# Altium integrated library Linear Technology Power Management Hot Swap Controllers.IntLib: 992 symbols (part 47 of 93)
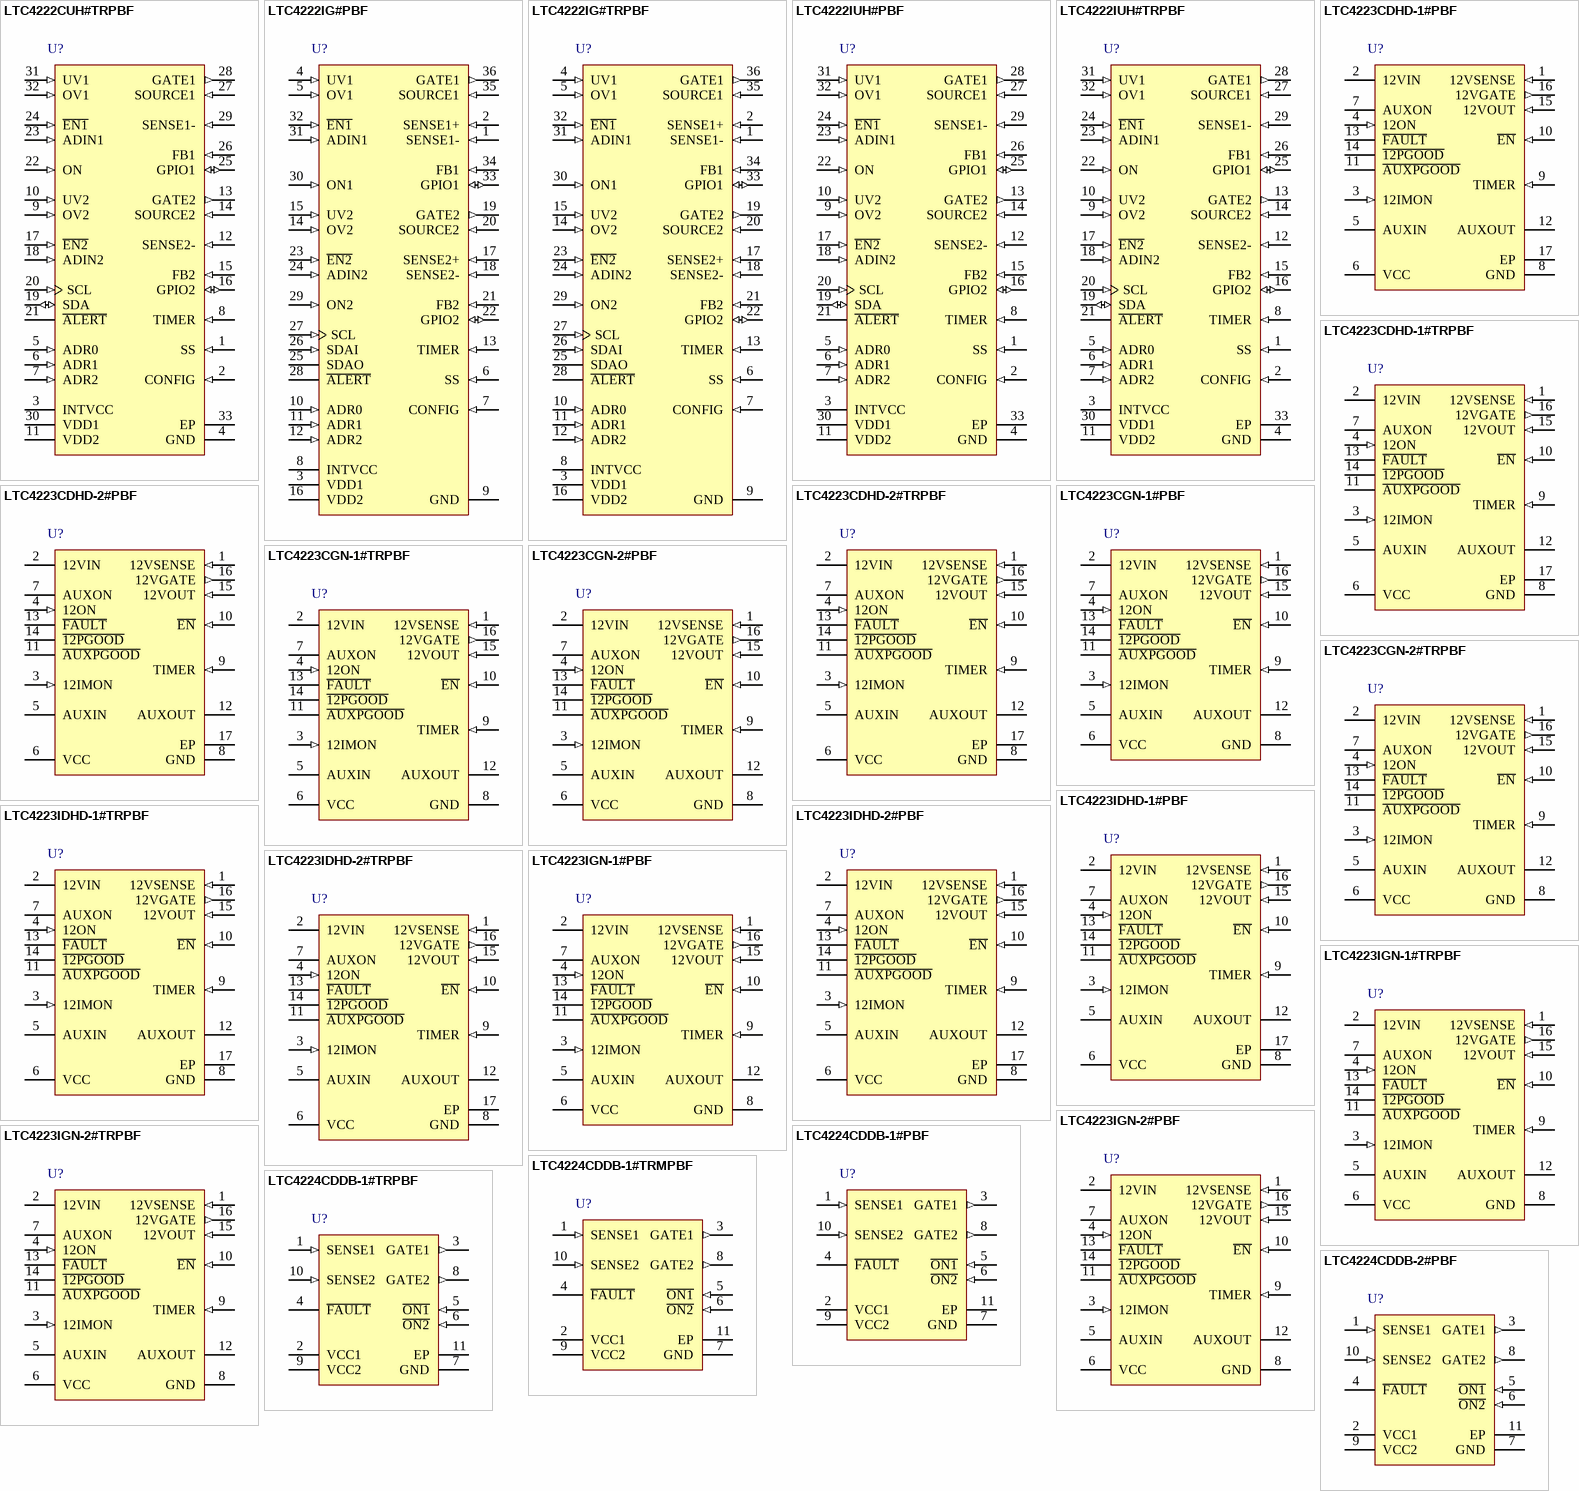
[diagram p83: symbols LTC4222CUH#TRPBF to LTC4224CDDB-2#PBF]

## LTC4224CDDB-1#PBF
designator U?
Compact Dual Low Voltage Hot Swap Controller, 1 to 6 V Vin, 10-pin SON (DDB-10), 0 to 70 degC, Pb-Free; Manufacturer: Linear Technology; PartNumber: LTC4224CDDB-1#PBF; Active Limiting: yes; Circuit Breaker Accuracy(%): 10; Circuit Breaker Threshold: 50 mV; Circuit Breakers(#): 2; Extended Temp: C, I; Fast Comparator: no; Vin Range: 1V to 6 V; DatasheetVersion: Rev. A; PackageVersion: Rev. Ø, 06/2010; PackageReference: DDB10; PackageDescription: 10-Pin Plastic DFN, Body 3 x 2 mm, Pitch 0.5 mm; Fault: no; Foldback: no; Power Good: yes; Reset: yes; RoHS: TRUE; Mounting Technology: Surface Mount; Code_JEDEC: MO-229; ComponentLink1Description: Manufacturer URL; ComponentLink1URL: http://www.linear.com/; ComponentLink2Description: Datasheet; ComponentLink2URL: http://cds.linear.com/docs/en/datasheet/422412fa.pdf; ComponentLink3Description: Package Specification; ComponentLink3URL: http://cds.linear.com/docs/en/packaging/DFN_10_05-08-1722.pdf
footprint LT-DDB-10_V (SON, 10-Leads, Body 3x2mm, Pitch 0.5mm, Thermal Pad 2.39x0.64mm)
pins: 1 SENSE1 (in) "Current Sense Input. Connect this pin to an external sense resistor. The current limit circuit controls GATEn to limit the voltage between VCCn and SENSEn to 25mV. An Electronic Circuit Breaker (ECB) is active during current (See Datasheet)", 2 VCC1 (power) "Supply Voltage and Current Sense Input. An undervoltage lockout circuit disables the part until VCC, the higher of VCC1 and VCC2, exceeds 2.4V. The lower supply is disabled until it exceeds 0.8V.", 3 GATE1 (out) "Gate Drive for External N-channel MOSFET. A charge pump sources 10uA from GATE to turn on the external MOSFET. An internal clamp limits the gate voltage to 5.5V above the higher of VCC1 and VCC2. During turn-off, a 1.5mA (See Datasheet)", 4 ~{FAULT} (oc) "Fault Status Output. Open-drain output that is normally pulled high to VCC1 or VCC2 by an external resistor. It is pulled low when the ECB trips due to an overcurrent condition at either supply. This pin may be left open if (See Datasheet)", 5 ~{ON1} (in) "On Control Input. A falling edge turns on the external N-channel MOSFET and a rising edge turns it off. A low to high transition on this pin resets an ECB fault for the corresponding channel. Internally pulled up to VCC by a (See Datasheet)", 6 ~{ON2} (in) "On Control Input. A falling edge turns on the external N-channel MOSFET and a rising edge turns it off. A low to high transition on this pin resets an ECB fault for the corresponding channel. Internally pulled up to VCC by a (See Datasheet)", 7 GND (power) "Device Ground.", 8 GATE2 (out) "Gate Drive for External N-channel MOSFET. A charge pump sources 10uA from GATE to turn on the external MOSFET. An internal clamp limits the gate voltage to 5.5V above the higher of VCC1 and VCC2. During turn-off, a 1.5mA (See Datasheet)", 9 VCC2 (power) "Supply Voltage and Current Sense Input. An undervoltage lockout circuit disables the part until VCC, the higher of VCC1 and VCC2, exceeds 2.4V. The lower supply is disabled until it exceeds 0.8V.", 10 SENSE2 (in) "Current Sense Input. Connect this pin to an external sense resistor. The current limit circuit controls GATEn to limit the voltage between VCCn and SENSEn to 25mV. An Electronic Circuit Breaker (ECB) is active during current (See Datasheet)", 11 EP "Exposed Pad may be left open or connected to device ground."

## LTC4224CDDB-1#TRMPBF
designator U?
Compact Dual Low Voltage Hot Swap Controller, 1 to 6 V Vin, 10-pin SON (DDB-10), 0 to 70 degC, Pb-Free, Mini Tape and Reel; Manufacturer: Linear Technology; PartNumber: LTC4224CDDB-1#TRMPBF; Active Limiting: yes; Circuit Breaker Accuracy(%): 10; Circuit Breaker Threshold: 50 mV; Circuit Breakers(#): 2; Extended Temp: C, I; Fast Comparator: no; Vin Range: 1V to 6 V; DatasheetVersion: Rev. A; PackageVersion: Rev. Ø, 06/2010; PackageReference: DDB10; PackageDescription: 10-Pin Plastic DFN, Body 3 x 2 mm, Pitch 0.5 mm; Supplier 1: Digi-Key; Supplier Part Number 1: LTC4224CDDB-1#TRMPBFTR-ND; Supplier 2: Digi-Key; Supplier Part Number 2: LTC4224CDDB-1#TRMPBFCT-ND; Supplier 3: Digi-Key; Supplier Part Number 3: LTC4224CDDB-1#TRMPBFDKR-ND; Fault: no; Foldback: no; Packing: Mini Tape and Reel; Power Good: yes; Reset: yes; RoHS: TRUE; Mounting Technology: Surface Mount; Code_JEDEC: MO-229; ComponentLink1Description: Manufacturer URL; ComponentLink1URL: http://www.linear.com/; ComponentLink2Description: Datasheet; ComponentLink2URL: http://cds.linear.com/docs/en/datasheet/422412fa.pdf; ComponentLink3Description: Package Specification; ComponentLink3URL: http://cds.linear.com/docs/en/packaging/DFN_10_05-08-1722.pdf
footprint LT-DDB-10_V (SON, 10-Leads, Body 3x2mm, Pitch 0.5mm, Thermal Pad 2.39x0.64mm)
pins: 1 SENSE1 (in) "Current Sense Input. Connect this pin to an external sense resistor. The current limit circuit controls GATEn to limit the voltage between VCCn and SENSEn to 25mV. An Electronic Circuit Breaker (ECB) is active during current (See Datasheet)", 2 VCC1 (power) "Supply Voltage and Current Sense Input. An undervoltage lockout circuit disables the part until VCC, the higher of VCC1 and VCC2, exceeds 2.4V. The lower supply is disabled until it exceeds 0.8V.", 3 GATE1 (out) "Gate Drive for External N-channel MOSFET. A charge pump sources 10uA from GATE to turn on the external MOSFET. An internal clamp limits the gate voltage to 5.5V above the higher of VCC1 and VCC2. During turn-off, a 1.5mA (See Datasheet)", 4 ~{FAULT} (oc) "Fault Status Output. Open-drain output that is normally pulled high to VCC1 or VCC2 by an external resistor. It is pulled low when the ECB trips due to an overcurrent condition at either supply. This pin may be left open if (See Datasheet)", 5 ~{ON1} (in) "On Control Input. A falling edge turns on the external N-channel MOSFET and a rising edge turns it off. A low to high transition on this pin resets an ECB fault for the corresponding channel. Internally pulled up to VCC by a (See Datasheet)", 6 ~{ON2} (in) "On Control Input. A falling edge turns on the external N-channel MOSFET and a rising edge turns it off. A low to high transition on this pin resets an ECB fault for the corresponding channel. Internally pulled up to VCC by a (See Datasheet)", 7 GND (power) "Device Ground.", 8 GATE2 (out) "Gate Drive for External N-channel MOSFET. A charge pump sources 10uA from GATE to turn on the external MOSFET. An internal clamp limits the gate voltage to 5.5V above the higher of VCC1 and VCC2. During turn-off, a 1.5mA (See Datasheet)", 9 VCC2 (power) "Supply Voltage and Current Sense Input. An undervoltage lockout circuit disables the part until VCC, the higher of VCC1 and VCC2, exceeds 2.4V. The lower supply is disabled until it exceeds 0.8V.", 10 SENSE2 (in) "Current Sense Input. Connect this pin to an external sense resistor. The current limit circuit controls GATEn to limit the voltage between VCCn and SENSEn to 25mV. An Electronic Circuit Breaker (ECB) is active during current (See Datasheet)", 11 EP "Exposed Pad may be left open or connected to device ground."

## LTC4224CDDB-1#TRPBF
designator U?
Compact Dual Low Voltage Hot Swap Controller, 1 to 6 V Vin, 10-pin SON (DDB-10), 0 to 70 degC, Pb-Free, Tape and Reel; Manufacturer: Linear Technology; PartNumber: LTC4224CDDB-1#TRPBF; Active Limiting: yes; Circuit Breaker Accuracy(%): 10; Circuit Breaker Threshold: 50 mV; Circuit Breakers(#): 2; Extended Temp: C, I; Fast Comparator: no; Vin Range: 1V to 6 V; DatasheetVersion: Rev. A; PackageVersion: Rev. Ø, 06/2010; PackageReference: DDB10; PackageDescription: 10-Pin Plastic DFN, Body 3 x 2 mm, Pitch 0.5 mm; Supplier 1: Digi-Key; Supplier Part Number 1: LTC4224CDDB-1#TRPBF-ND; Fault: no; Foldback: no; Packing: Tape and Reel; Power Good: yes; Reset: yes; RoHS: TRUE; Mounting Technology: Surface Mount; Code_JEDEC: MO-229; ComponentLink1Description: Manufacturer URL; ComponentLink1URL: http://www.linear.com/; ComponentLink2Description: Datasheet; ComponentLink2URL: http://cds.linear.com/docs/en/datasheet/422412fa.pdf; ComponentLink3Description: Package Specification; ComponentLink3URL: http://cds.linear.com/docs/en/packaging/DFN_10_05-08-1722.pdf
footprint LT-DDB-10_V (SON, 10-Leads, Body 3x2mm, Pitch 0.5mm, Thermal Pad 2.39x0.64mm)
pins: 1 SENSE1 (in) "Current Sense Input. Connect this pin to an external sense resistor. The current limit circuit controls GATEn to limit the voltage between VCCn and SENSEn to 25mV. An Electronic Circuit Breaker (ECB) is active during current (See Datasheet)", 2 VCC1 (power) "Supply Voltage and Current Sense Input. An undervoltage lockout circuit disables the part until VCC, the higher of VCC1 and VCC2, exceeds 2.4V. The lower supply is disabled until it exceeds 0.8V.", 3 GATE1 (out) "Gate Drive for External N-channel MOSFET. A charge pump sources 10uA from GATE to turn on the external MOSFET. An internal clamp limits the gate voltage to 5.5V above the higher of VCC1 and VCC2. During turn-off, a 1.5mA (See Datasheet)", 4 ~{FAULT} (oc) "Fault Status Output. Open-drain output that is normally pulled high to VCC1 or VCC2 by an external resistor. It is pulled low when the ECB trips due to an overcurrent condition at either supply. This pin may be left open if (See Datasheet)", 5 ~{ON1} (in) "On Control Input. A falling edge turns on the external N-channel MOSFET and a rising edge turns it off. A low to high transition on this pin resets an ECB fault for the corresponding channel. Internally pulled up to VCC by a (See Datasheet)", 6 ~{ON2} (in) "On Control Input. A falling edge turns on the external N-channel MOSFET and a rising edge turns it off. A low to high transition on this pin resets an ECB fault for the corresponding channel. Internally pulled up to VCC by a (See Datasheet)", 7 GND (power) "Device Ground.", 8 GATE2 (out) "Gate Drive for External N-channel MOSFET. A charge pump sources 10uA from GATE to turn on the external MOSFET. An internal clamp limits the gate voltage to 5.5V above the higher of VCC1 and VCC2. During turn-off, a 1.5mA (See Datasheet)", 9 VCC2 (power) "Supply Voltage and Current Sense Input. An undervoltage lockout circuit disables the part until VCC, the higher of VCC1 and VCC2, exceeds 2.4V. The lower supply is disabled until it exceeds 0.8V.", 10 SENSE2 (in) "Current Sense Input. Connect this pin to an external sense resistor. The current limit circuit controls GATEn to limit the voltage between VCCn and SENSEn to 25mV. An Electronic Circuit Breaker (ECB) is active during current (See Datasheet)", 11 EP "Exposed Pad may be left open or connected to device ground."

## LTC4224CDDB-2#PBF
designator U?
Compact Dual Low Voltage Hot Swap Controller, 1 to 6 V Vin, 10-pin SON (DDB-10), 0 to 70 degC, Pb-Free; Manufacturer: Linear Technology; PartNumber: LTC4224CDDB-2#PBF; Active Limiting: yes; Circuit Breaker Accuracy(%): 10; Circuit Breaker Threshold: 50 mV; Circuit Breakers(#): 2; Extended Temp: C, I; Fast Comparator: no; Vin Range: 1V to 6 V; DatasheetVersion: Rev. A; PackageVersion: Rev. Ø, 06/2010; PackageReference: DDB10; PackageDescription: 10-Pin Plastic DFN, Body 3 x 2 mm, Pitch 0.5 mm; Fault: no; Foldback: no; Power Good: yes; Reset: yes; RoHS: TRUE; Mounting Technology: Surface Mount; Code_JEDEC: MO-229; ComponentLink1Description: Manufacturer URL; ComponentLink1URL: http://www.linear.com/; ComponentLink2Description: Datasheet; ComponentLink2URL: http://cds.linear.com/docs/en/datasheet/422412fa.pdf; ComponentLink3Description: Package Specification; ComponentLink3URL: http://cds.linear.com/docs/en/packaging/DFN_10_05-08-1722.pdf
footprint LT-DDB-10_V (SON, 10-Leads, Body 3x2mm, Pitch 0.5mm, Thermal Pad 2.39x0.64mm)
pins: 1 SENSE1 (in) "Current Sense Input. Connect this pin to an external sense resistor. The current limit circuit controls GATEn to limit the voltage between VCCn and SENSEn to 25mV. An Electronic Circuit Breaker (ECB) is active during current (See Datasheet)", 2 VCC1 (power) "Supply Voltage and Current Sense Input. An undervoltage lockout circuit disables the part until VCC, the higher of VCC1 and VCC2, exceeds 2.4V. The lower supply is disabled until it exceeds 0.8V.", 3 GATE1 (out) "Gate Drive for External N-channel MOSFET. A charge pump sources 10uA from GATE to turn on the external MOSFET. An internal clamp limits the gate voltage to 5.5V above the higher of VCC1 and VCC2. During turn-off, a 1.5mA (See Datasheet)", 4 ~{FAULT} (oc) "Fault Status Output. Open-drain output that is normally pulled high to VCC1 or VCC2 by an external resistor. It is pulled low when the ECB trips due to an overcurrent condition at either supply. This pin may be left open if (See Datasheet)", 5 ~{ON1} (in) "On Control Input. A falling edge turns on the external N-channel MOSFET and a rising edge turns it off. A low to high transition on this pin resets an ECB fault for the corresponding channel. Internally pulled up to VCC by a (See Datasheet)", 6 ~{ON2} (in) "On Control Input. A falling edge turns on the external N-channel MOSFET and a rising edge turns it off. A low to high transition on this pin resets an ECB fault for the corresponding channel. Internally pulled up to VCC by a (See Datasheet)", 7 GND (power) "Device Ground.", 8 GATE2 (out) "Gate Drive for External N-channel MOSFET. A charge pump sources 10uA from GATE to turn on the external MOSFET. An internal clamp limits the gate voltage to 5.5V above the higher of VCC1 and VCC2. During turn-off, a 1.5mA (See Datasheet)", 9 VCC2 (power) "Supply Voltage and Current Sense Input. An undervoltage lockout circuit disables the part until VCC, the higher of VCC1 and VCC2, exceeds 2.4V. The lower supply is disabled until it exceeds 0.8V.", 10 SENSE2 (in) "Current Sense Input. Connect this pin to an external sense resistor. The current limit circuit controls GATEn to limit the voltage between VCCn and SENSEn to 25mV. An Electronic Circuit Breaker (ECB) is active during current (See Datasheet)", 11 EP "Exposed Pad may be left open or connected to device ground."

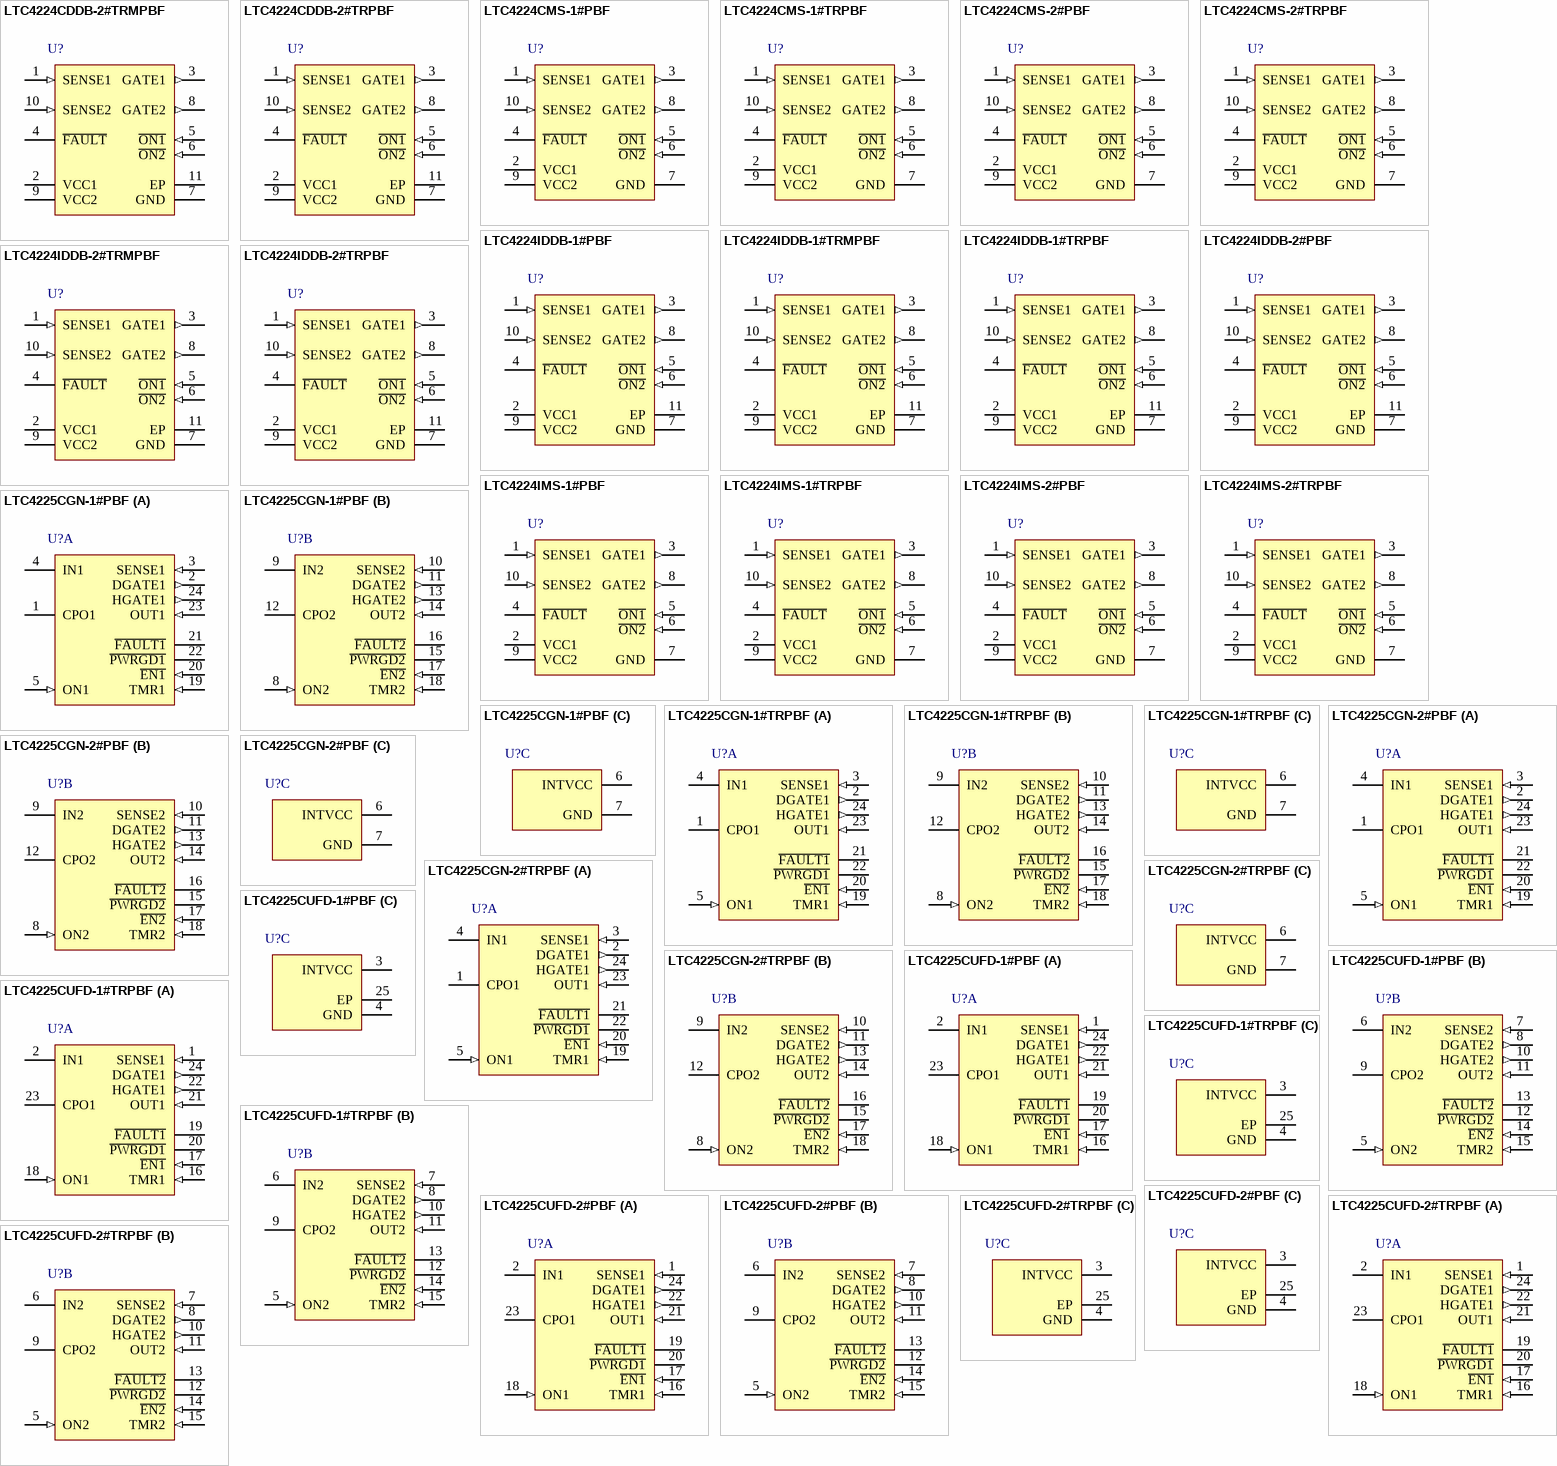
[diagram p19: symbols LTC4224CDDB-2#TRMPBF to LTC4225CUFD-2#TRPBF]

## LTC4224CDDB-2#TRMPBF
designator U?
Compact Dual Low Voltage Hot Swap Controller, 1 to 6 V Vin, 10-pin SON (DDB-10), 0 to 70 degC, Pb-Free, Mini Tape and Reel; Manufacturer: Linear Technology; PartNumber: LTC4224CDDB-2#TRMPBF; Active Limiting: yes; Circuit Breaker Accuracy(%): 10; Circuit Breaker Threshold: 50 mV; Circuit Breakers(#): 2; Extended Temp: C, I; Fast Comparator: no; Vin Range: 1V to 6 V; DatasheetVersion: Rev. A; PackageVersion: Rev. Ø, 06/2010; PackageReference: DDB10; PackageDescription: 10-Pin Plastic DFN, Body 3 x 2 mm, Pitch 0.5 mm; Supplier 1: Digi-Key; Supplier Part Number 1: LTC4224CDDB-2#TRMPBFTR-ND; Supplier 2: Digi-Key; Supplier Part Number 2: LTC4224CDDB-2#TRMPBFCT-ND; Supplier 3: Digi-Key; Supplier Part Number 3: LTC4224CDDB-2#TRMPBFDKR-ND; Supplier 4: Newark; Supplier Part Number 4: 02P7592; Fault: no; Foldback: no; Packing: Mini Tape and Reel; Power Good: yes; Reset: yes; RoHS: TRUE; Mounting Technology: Surface Mount; Code_JEDEC: MO-229; ComponentLink1Description: Manufacturer URL; ComponentLink1URL: http://www.linear.com/; ComponentLink2Description: Datasheet; ComponentLink2URL: http://cds.linear.com/docs/en/datasheet/422412fa.pdf; ComponentLink3Description: Package Specification; ComponentLink3URL: http://cds.linear.com/docs/en/packaging/DFN_10_05-08-1722.pdf
footprint LT-DDB-10_V (SON, 10-Leads, Body 3x2mm, Pitch 0.5mm, Thermal Pad 2.39x0.64mm)
pins: 1 SENSE1 (in) "Current Sense Input. Connect this pin to an external sense resistor. The current limit circuit controls GATEn to limit the voltage between VCCn and SENSEn to 25mV. An Electronic Circuit Breaker (ECB) is active during current (See Datasheet)", 2 VCC1 (power) "Supply Voltage and Current Sense Input. An undervoltage lockout circuit disables the part until VCC, the higher of VCC1 and VCC2, exceeds 2.4V. The lower supply is disabled until it exceeds 0.8V.", 3 GATE1 (out) "Gate Drive for External N-channel MOSFET. A charge pump sources 10uA from GATE to turn on the external MOSFET. An internal clamp limits the gate voltage to 5.5V above the higher of VCC1 and VCC2. During turn-off, a 1.5mA (See Datasheet)", 4 ~{FAULT} (oc) "Fault Status Output. Open-drain output that is normally pulled high to VCC1 or VCC2 by an external resistor. It is pulled low when the ECB trips due to an overcurrent condition at either supply. This pin may be left open if (See Datasheet)", 5 ~{ON1} (in) "On Control Input. A falling edge turns on the external N-channel MOSFET and a rising edge turns it off. A low to high transition on this pin resets an ECB fault for the corresponding channel. Internally pulled up to VCC by a (See Datasheet)", 6 ~{ON2} (in) "On Control Input. A falling edge turns on the external N-channel MOSFET and a rising edge turns it off. A low to high transition on this pin resets an ECB fault for the corresponding channel. Internally pulled up to VCC by a (See Datasheet)", 7 GND (power) "Device Ground.", 8 GATE2 (out) "Gate Drive for External N-channel MOSFET. A charge pump sources 10uA from GATE to turn on the external MOSFET. An internal clamp limits the gate voltage to 5.5V above the higher of VCC1 and VCC2. During turn-off, a 1.5mA (See Datasheet)", 9 VCC2 (power) "Supply Voltage and Current Sense Input. An undervoltage lockout circuit disables the part until VCC, the higher of VCC1 and VCC2, exceeds 2.4V. The lower supply is disabled until it exceeds 0.8V.", 10 SENSE2 (in) "Current Sense Input. Connect this pin to an external sense resistor. The current limit circuit controls GATEn to limit the voltage between VCCn and SENSEn to 25mV. An Electronic Circuit Breaker (ECB) is active during current (See Datasheet)", 11 EP "Exposed Pad may be left open or connected to device ground."

## LTC4224CDDB-2#TRPBF
designator U?
Compact Dual Low Voltage Hot Swap Controller, 1 to 6 V Vin, 10-pin SON (DDB-10), 0 to 70 degC, Pb-Free, Tape and Reel; Manufacturer: Linear Technology; PartNumber: LTC4224CDDB-2#TRPBF; Active Limiting: yes; Circuit Breaker Accuracy(%): 10; Circuit Breaker Threshold: 50 mV; Circuit Breakers(#): 2; Extended Temp: C, I; Fast Comparator: no; Vin Range: 1V to 6 V; DatasheetVersion: Rev. A; PackageVersion: Rev. Ø, 06/2010; PackageReference: DDB10; PackageDescription: 10-Pin Plastic DFN, Body 3 x 2 mm, Pitch 0.5 mm; Supplier 1: Digi-Key; Supplier Part Number 1: LTC4224CDDB-2#TRPBF-ND; Supplier 2: Newark; Supplier Part Number 2: 02P7593; Fault: no; Foldback: no; Packing: Tape and Reel; Power Good: yes; Reset: yes; RoHS: TRUE; Mounting Technology: Surface Mount; Code_JEDEC: MO-229; ComponentLink1Description: Manufacturer URL; ComponentLink1URL: http://www.linear.com/; ComponentLink2Description: Datasheet; ComponentLink2URL: http://cds.linear.com/docs/en/datasheet/422412fa.pdf; ComponentLink3Description: Package Specification; ComponentLink3URL: http://cds.linear.com/docs/en/packaging/DFN_10_05-08-1722.pdf
footprint LT-DDB-10_V (SON, 10-Leads, Body 3x2mm, Pitch 0.5mm, Thermal Pad 2.39x0.64mm)
pins: 1 SENSE1 (in) "Current Sense Input. Connect this pin to an external sense resistor. The current limit circuit controls GATEn to limit the voltage between VCCn and SENSEn to 25mV. An Electronic Circuit Breaker (ECB) is active during current (See Datasheet)", 2 VCC1 (power) "Supply Voltage and Current Sense Input. An undervoltage lockout circuit disables the part until VCC, the higher of VCC1 and VCC2, exceeds 2.4V. The lower supply is disabled until it exceeds 0.8V.", 3 GATE1 (out) "Gate Drive for External N-channel MOSFET. A charge pump sources 10uA from GATE to turn on the external MOSFET. An internal clamp limits the gate voltage to 5.5V above the higher of VCC1 and VCC2. During turn-off, a 1.5mA (See Datasheet)", 4 ~{FAULT} (oc) "Fault Status Output. Open-drain output that is normally pulled high to VCC1 or VCC2 by an external resistor. It is pulled low when the ECB trips due to an overcurrent condition at either supply. This pin may be left open if (See Datasheet)", 5 ~{ON1} (in) "On Control Input. A falling edge turns on the external N-channel MOSFET and a rising edge turns it off. A low to high transition on this pin resets an ECB fault for the corresponding channel. Internally pulled up to VCC by a (See Datasheet)", 6 ~{ON2} (in) "On Control Input. A falling edge turns on the external N-channel MOSFET and a rising edge turns it off. A low to high transition on this pin resets an ECB fault for the corresponding channel. Internally pulled up to VCC by a (See Datasheet)", 7 GND (power) "Device Ground.", 8 GATE2 (out) "Gate Drive for External N-channel MOSFET. A charge pump sources 10uA from GATE to turn on the external MOSFET. An internal clamp limits the gate voltage to 5.5V above the higher of VCC1 and VCC2. During turn-off, a 1.5mA (See Datasheet)", 9 VCC2 (power) "Supply Voltage and Current Sense Input. An undervoltage lockout circuit disables the part until VCC, the higher of VCC1 and VCC2, exceeds 2.4V. The lower supply is disabled until it exceeds 0.8V.", 10 SENSE2 (in) "Current Sense Input. Connect this pin to an external sense resistor. The current limit circuit controls GATEn to limit the voltage between VCCn and SENSEn to 25mV. An Electronic Circuit Breaker (ECB) is active during current (See Datasheet)", 11 EP "Exposed Pad may be left open or connected to device ground."

## LTC4224CMS-1#PBF
designator U?
Compact Dual Low Voltage Hot Swap Controller, 1 to 6 V Vin, 10-pin SOP (MS-10), 0 to 70 degC, Pb-Free; Manufacturer: Linear Technology; PartNumber: LTC4224CMS-1#PBF; Active Limiting: yes; Circuit Breaker Accuracy(%): 10; Circuit Breaker Threshold: 50 mV; Circuit Breakers(#): 2; Extended Temp: C, I; Fast Comparator: no; Vin Range: 1V to 6 V; DatasheetVersion: Rev. A; PackageVersion: Rev. E, 06/2010; PackageReference: MS-10; PackageDescription: 10-Pin Plastic MSOP, Body 3 x 3 mm, Pitch 0.5 mm; Supplier 1: Digi-Key; Supplier Part Number 1: LTC4224CMS-1#PBF-ND; Fault: no; Foldback: no; Power Good: yes; Reset: yes; RoHS: TRUE; Mounting Technology: Surface Mount; ComponentLink1Description: Manufacturer URL; ComponentLink1URL: http://www.linear.com/; ComponentLink2Description: Datasheet; ComponentLink2URL: http://cds.linear.com/docs/en/datasheet/422412fa.pdf; ComponentLink3Description: Package Specification; ComponentLink3URL: http://cds.linear.com/docs/en/packaging/05081661_F_MS.pdf
footprint LT-MS-10_N (SOP, 10-Leads, Body 3.1x3.1mm, Pitch 0.5mm, IPC Medium Density)
footprint LT-MS-10_L (SOP, 10-Leads, Body 3.1x3.1mm, Pitch 0.5mm, IPC High Density)
footprint LT-MS-10_M (SOP, 10-Leads, Body 3.1x3.1mm, Pitch 0.5mm, IPC Low Density)
pins: 1 SENSE1 (in) "Current Sense Input. Connect this pin to an external sense resistor. The current limit circuit controls GATEn to limit the voltage between VCCn and SENSEn to 25mV. An Electronic Circuit Breaker (ECB) is active during current (See Datasheet)", 2 VCC1 (power) "Supply Voltage and Current Sense Input. An undervoltage lockout circuit disables the part until VCC, the higher of VCC1 and VCC2, exceeds 2.4V. The lower supply is disabled until it exceeds 0.8V.", 3 GATE1 (out) "Gate Drive for External N-channel MOSFET. A charge pump sources 10uA from GATE to turn on the external MOSFET. An internal clamp limits the gate voltage to 5.5V above the higher of VCC1 and VCC2. During turn-off, a 1.5mA (See Datasheet)", 4 ~{FAULT} (oc) "Fault Status Output. Open-drain output that is normally pulled high to VCC1 or VCC2 by an external resistor. It is pulled low when the ECB trips due to an overcurrent condition at either supply. This pin may be left open if (See Datasheet)", 5 ~{ON1} (in) "On Control Input. A falling edge turns on the external N-channel MOSFET and a rising edge turns it off. A low to high transition on this pin resets an ECB fault for the corresponding channel. Internally pulled up to VCC by a (See Datasheet)", 6 ~{ON2} (in) "On Control Input. A falling edge turns on the external N-channel MOSFET and a rising edge turns it off. A low to high transition on this pin resets an ECB fault for the corresponding channel. Internally pulled up to VCC by a (See Datasheet)", 7 GND (power) "Device Ground.", 8 GATE2 (out) "Gate Drive for External N-channel MOSFET. A charge pump sources 10uA from GATE to turn on the external MOSFET. An internal clamp limits the gate voltage to 5.5V above the higher of VCC1 and VCC2. During turn-off, a 1.5mA (See Datasheet)", 9 VCC2 (power) "Supply Voltage and Current Sense Input. An undervoltage lockout circuit disables the part until VCC, the higher of VCC1 and VCC2, exceeds 2.4V. The lower supply is disabled until it exceeds 0.8V.", 10 SENSE2 (in) "Current Sense Input. Connect this pin to an external sense resistor. The current limit circuit controls GATEn to limit the voltage between VCCn and SENSEn to 25mV. An Electronic Circuit Breaker (ECB) is active during current (See Datasheet)"

## LTC4224CMS-1#TRPBF
designator U?
Compact Dual Low Voltage Hot Swap Controller, 1 to 6 V Vin, 10-pin SOP (MS-10), 0 to 70 degC, Pb-Free, Tape and Reel; Manufacturer: Linear Technology; PartNumber: LTC4224CMS-1#TRPBF; Active Limiting: yes; Circuit Breaker Accuracy(%): 10; Circuit Breaker Threshold: 50 mV; Circuit Breakers(#): 2; Extended Temp: C, I; Fast Comparator: no; Vin Range: 1V to 6 V; DatasheetVersion: Rev. A; PackageVersion: Rev. E, 06/2010; PackageReference: MS-10; PackageDescription: 10-Pin Plastic MSOP, Body 3 x 3 mm, Pitch 0.5 mm; Supplier 1: Digi-Key; Supplier Part Number 1: LTC4224CMS-1#TRPBF-ND; Supplier 2: Newark; Supplier Part Number 2: 02P7595; Fault: no; Foldback: no; Packing: Tape and Reel; Power Good: yes; Reset: yes; RoHS: TRUE; Mounting Technology: Surface Mount; ComponentLink1Description: Manufacturer URL; ComponentLink1URL: http://www.linear.com/; ComponentLink2Description: Datasheet; ComponentLink2URL: http://cds.linear.com/docs/en/datasheet/422412fa.pdf; ComponentLink3Description: Package Specification; ComponentLink3URL: http://cds.linear.com/docs/en/packaging/05081661_F_MS.pdf
footprint LT-MS-10_N (SOP, 10-Leads, Body 3.1x3.1mm, Pitch 0.5mm, IPC Medium Density)
footprint LT-MS-10_L (SOP, 10-Leads, Body 3.1x3.1mm, Pitch 0.5mm, IPC High Density)
footprint LT-MS-10_M (SOP, 10-Leads, Body 3.1x3.1mm, Pitch 0.5mm, IPC Low Density)
pins: 1 SENSE1 (in) "Current Sense Input. Connect this pin to an external sense resistor. The current limit circuit controls GATEn to limit the voltage between VCCn and SENSEn to 25mV. An Electronic Circuit Breaker (ECB) is active during current (See Datasheet)", 2 VCC1 (power) "Supply Voltage and Current Sense Input. An undervoltage lockout circuit disables the part until VCC, the higher of VCC1 and VCC2, exceeds 2.4V. The lower supply is disabled until it exceeds 0.8V.", 3 GATE1 (out) "Gate Drive for External N-channel MOSFET. A charge pump sources 10uA from GATE to turn on the external MOSFET. An internal clamp limits the gate voltage to 5.5V above the higher of VCC1 and VCC2. During turn-off, a 1.5mA (See Datasheet)", 4 ~{FAULT} (oc) "Fault Status Output. Open-drain output that is normally pulled high to VCC1 or VCC2 by an external resistor. It is pulled low when the ECB trips due to an overcurrent condition at either supply. This pin may be left open if (See Datasheet)", 5 ~{ON1} (in) "On Control Input. A falling edge turns on the external N-channel MOSFET and a rising edge turns it off. A low to high transition on this pin resets an ECB fault for the corresponding channel. Internally pulled up to VCC by a (See Datasheet)", 6 ~{ON2} (in) "On Control Input. A falling edge turns on the external N-channel MOSFET and a rising edge turns it off. A low to high transition on this pin resets an ECB fault for the corresponding channel. Internally pulled up to VCC by a (See Datasheet)", 7 GND (power) "Device Ground.", 8 GATE2 (out) "Gate Drive for External N-channel MOSFET. A charge pump sources 10uA from GATE to turn on the external MOSFET. An internal clamp limits the gate voltage to 5.5V above the higher of VCC1 and VCC2. During turn-off, a 1.5mA (See Datasheet)", 9 VCC2 (power) "Supply Voltage and Current Sense Input. An undervoltage lockout circuit disables the part until VCC, the higher of VCC1 and VCC2, exceeds 2.4V. The lower supply is disabled until it exceeds 0.8V.", 10 SENSE2 (in) "Current Sense Input. Connect this pin to an external sense resistor. The current limit circuit controls GATEn to limit the voltage between VCCn and SENSEn to 25mV. An Electronic Circuit Breaker (ECB) is active during current (See Datasheet)"

## LTC4224CMS-2#PBF
designator U?
Compact Dual Low Voltage Hot Swap Controller, 1 to 6 V Vin, 10-pin SOP (MS-10), 0 to 70 degC, Pb-Free; Manufacturer: Linear Technology; PartNumber: LTC4224CMS-2#PBF; Active Limiting: yes; Circuit Breaker Accuracy(%): 10; Circuit Breaker Threshold: 50 mV; Circuit Breakers(#): 2; Extended Temp: C, I; Fast Comparator: no; Vin Range: 1V to 6 V; DatasheetVersion: Rev. A; PackageVersion: Rev. E, 06/2010; PackageReference: MS-10; PackageDescription: 10-Pin Plastic MSOP, Body 3 x 3 mm, Pitch 0.5 mm; Supplier 1: Digi-Key; Supplier Part Number 1: LTC4224CMS-2#PBF-ND; Fault: no; Foldback: no; Power Good: yes; Reset: yes; RoHS: TRUE; Mounting Technology: Surface Mount; ComponentLink1Description: Manufacturer URL; ComponentLink1URL: http://www.linear.com/; ComponentLink2Description: Datasheet; ComponentLink2URL: http://cds.linear.com/docs/en/datasheet/422412fa.pdf; ComponentLink3Description: Package Specification; ComponentLink3URL: http://cds.linear.com/docs/en/packaging/05081661_F_MS.pdf
footprint LT-MS-10_N (SOP, 10-Leads, Body 3.1x3.1mm, Pitch 0.5mm, IPC Medium Density)
footprint LT-MS-10_L (SOP, 10-Leads, Body 3.1x3.1mm, Pitch 0.5mm, IPC High Density)
footprint LT-MS-10_M (SOP, 10-Leads, Body 3.1x3.1mm, Pitch 0.5mm, IPC Low Density)
pins: 1 SENSE1 (in) "Current Sense Input. Connect this pin to an external sense resistor. The current limit circuit controls GATEn to limit the voltage between VCCn and SENSEn to 25mV. An Electronic Circuit Breaker (ECB) is active during current (See Datasheet)", 2 VCC1 (power) "Supply Voltage and Current Sense Input. An undervoltage lockout circuit disables the part until VCC, the higher of VCC1 and VCC2, exceeds 2.4V. The lower supply is disabled until it exceeds 0.8V.", 3 GATE1 (out) "Gate Drive for External N-channel MOSFET. A charge pump sources 10uA from GATE to turn on the external MOSFET. An internal clamp limits the gate voltage to 5.5V above the higher of VCC1 and VCC2. During turn-off, a 1.5mA (See Datasheet)", 4 ~{FAULT} (oc) "Fault Status Output. Open-drain output that is normally pulled high to VCC1 or VCC2 by an external resistor. It is pulled low when the ECB trips due to an overcurrent condition at either supply. This pin may be left open if (See Datasheet)", 5 ~{ON1} (in) "On Control Input. A falling edge turns on the external N-channel MOSFET and a rising edge turns it off. A low to high transition on this pin resets an ECB fault for the corresponding channel. Internally pulled up to VCC by a (See Datasheet)", 6 ~{ON2} (in) "On Control Input. A falling edge turns on the external N-channel MOSFET and a rising edge turns it off. A low to high transition on this pin resets an ECB fault for the corresponding channel. Internally pulled up to VCC by a (See Datasheet)", 7 GND (power) "Device Ground.", 8 GATE2 (out) "Gate Drive for External N-channel MOSFET. A charge pump sources 10uA from GATE to turn on the external MOSFET. An internal clamp limits the gate voltage to 5.5V above the higher of VCC1 and VCC2. During turn-off, a 1.5mA (See Datasheet)", 9 VCC2 (power) "Supply Voltage and Current Sense Input. An undervoltage lockout circuit disables the part until VCC, the higher of VCC1 and VCC2, exceeds 2.4V. The lower supply is disabled until it exceeds 0.8V.", 10 SENSE2 (in) "Current Sense Input. Connect this pin to an external sense resistor. The current limit circuit controls GATEn to limit the voltage between VCCn and SENSEn to 25mV. An Electronic Circuit Breaker (ECB) is active during current (See Datasheet)"

## LTC4224CMS-2#TRPBF
designator U?
Compact Dual Low Voltage Hot Swap Controller, 1 to 6 V Vin, 10-pin SOP (MS-10), 0 to 70 degC, Pb-Free, Tape and Reel; Manufacturer: Linear Technology; PartNumber: LTC4224CMS-2#TRPBF; Active Limiting: yes; Circuit Breaker Accuracy(%): 10; Circuit Breaker Threshold: 50 mV; Circuit Breakers(#): 2; Extended Temp: C, I; Fast Comparator: no; Vin Range: 1V to 6 V; DatasheetVersion: Rev. A; PackageVersion: Rev. E, 06/2010; PackageReference: MS-10; PackageDescription: 10-Pin Plastic MSOP, Body 3 x 3 mm, Pitch 0.5 mm; Supplier 1: Digi-Key; Supplier Part Number 1: LTC4224CMS-2#TRPBF-ND; Fault: no; Foldback: no; Packing: Tape and Reel; Power Good: yes; Reset: yes; RoHS: TRUE; Mounting Technology: Surface Mount; ComponentLink1Description: Manufacturer URL; ComponentLink1URL: http://www.linear.com/; ComponentLink2Description: Datasheet; ComponentLink2URL: http://cds.linear.com/docs/en/datasheet/422412fa.pdf; ComponentLink3Description: Package Specification; ComponentLink3URL: http://cds.linear.com/docs/en/packaging/05081661_F_MS.pdf
footprint LT-MS-10_N (SOP, 10-Leads, Body 3.1x3.1mm, Pitch 0.5mm, IPC Medium Density)
footprint LT-MS-10_L (SOP, 10-Leads, Body 3.1x3.1mm, Pitch 0.5mm, IPC High Density)
footprint LT-MS-10_M (SOP, 10-Leads, Body 3.1x3.1mm, Pitch 0.5mm, IPC Low Density)
pins: 1 SENSE1 (in) "Current Sense Input. Connect this pin to an external sense resistor. The current limit circuit controls GATEn to limit the voltage between VCCn and SENSEn to 25mV. An Electronic Circuit Breaker (ECB) is active during current (See Datasheet)", 2 VCC1 (power) "Supply Voltage and Current Sense Input. An undervoltage lockout circuit disables the part until VCC, the higher of VCC1 and VCC2, exceeds 2.4V. The lower supply is disabled until it exceeds 0.8V.", 3 GATE1 (out) "Gate Drive for External N-channel MOSFET. A charge pump sources 10uA from GATE to turn on the external MOSFET. An internal clamp limits the gate voltage to 5.5V above the higher of VCC1 and VCC2. During turn-off, a 1.5mA (See Datasheet)", 4 ~{FAULT} (oc) "Fault Status Output. Open-drain output that is normally pulled high to VCC1 or VCC2 by an external resistor. It is pulled low when the ECB trips due to an overcurrent condition at either supply. This pin may be left open if (See Datasheet)", 5 ~{ON1} (in) "On Control Input. A falling edge turns on the external N-channel MOSFET and a rising edge turns it off. A low to high transition on this pin resets an ECB fault for the corresponding channel. Internally pulled up to VCC by a (See Datasheet)", 6 ~{ON2} (in) "On Control Input. A falling edge turns on the external N-channel MOSFET and a rising edge turns it off. A low to high transition on this pin resets an ECB fault for the corresponding channel. Internally pulled up to VCC by a (See Datasheet)", 7 GND (power) "Device Ground.", 8 GATE2 (out) "Gate Drive for External N-channel MOSFET. A charge pump sources 10uA from GATE to turn on the external MOSFET. An internal clamp limits the gate voltage to 5.5V above the higher of VCC1 and VCC2. During turn-off, a 1.5mA (See Datasheet)", 9 VCC2 (power) "Supply Voltage and Current Sense Input. An undervoltage lockout circuit disables the part until VCC, the higher of VCC1 and VCC2, exceeds 2.4V. The lower supply is disabled until it exceeds 0.8V.", 10 SENSE2 (in) "Current Sense Input. Connect this pin to an external sense resistor. The current limit circuit controls GATEn to limit the voltage between VCCn and SENSEn to 25mV. An Electronic Circuit Breaker (ECB) is active during current (See Datasheet)"

## LTC4224IDDB-1#PBF
designator U?
Compact Dual Low Voltage Hot Swap Controller, 1 to 6 V Vin, 10-pin SON (DDB-10), -40 to 85 degC, Pb-Free; Manufacturer: Linear Technology; PartNumber: LTC4224IDDB-1#PBF; Active Limiting: yes; Circuit Breaker Accuracy(%): 10; Circuit Breaker Threshold: 50 mV; Circuit Breakers(#): 2; Extended Temp: C, I; Fast Comparator: no; Vin Range: 1V to 6 V; DatasheetVersion: Rev. A; PackageVersion: Rev. Ø, 06/2010; PackageReference: DDB10; PackageDescription: 10-Pin Plastic DFN, Body 3 x 2 mm, Pitch 0.5 mm; Fault: no; Foldback: no; Power Good: yes; Reset: yes; RoHS: TRUE; Mounting Technology: Surface Mount; Code_JEDEC: MO-229; ComponentLink1Description: Manufacturer URL; ComponentLink1URL: http://www.linear.com/; ComponentLink2Description: Datasheet; ComponentLink2URL: http://cds.linear.com/docs/en/datasheet/422412fa.pdf; ComponentLink3Description: Package Specification; ComponentLink3URL: http://cds.linear.com/docs/en/packaging/DFN_10_05-08-1722.pdf
footprint LT-DDB-10_V (SON, 10-Leads, Body 3x2mm, Pitch 0.5mm, Thermal Pad 2.39x0.64mm)
pins: 1 SENSE1 (in) "Current Sense Input. Connect this pin to an external sense resistor. The current limit circuit controls GATEn to limit the voltage between VCCn and SENSEn to 25mV. An Electronic Circuit Breaker (ECB) is active during current (See Datasheet)", 2 VCC1 (power) "Supply Voltage and Current Sense Input. An undervoltage lockout circuit disables the part until VCC, the higher of VCC1 and VCC2, exceeds 2.4V. The lower supply is disabled until it exceeds 0.8V.", 3 GATE1 (out) "Gate Drive for External N-channel MOSFET. A charge pump sources 10uA from GATE to turn on the external MOSFET. An internal clamp limits the gate voltage to 5.5V above the higher of VCC1 and VCC2. During turn-off, a 1.5mA (See Datasheet)", 4 ~{FAULT} (oc) "Fault Status Output. Open-drain output that is normally pulled high to VCC1 or VCC2 by an external resistor. It is pulled low when the ECB trips due to an overcurrent condition at either supply. This pin may be left open if (See Datasheet)", 5 ~{ON1} (in) "On Control Input. A falling edge turns on the external N-channel MOSFET and a rising edge turns it off. A low to high transition on this pin resets an ECB fault for the corresponding channel. Internally pulled up to VCC by a (See Datasheet)", 6 ~{ON2} (in) "On Control Input. A falling edge turns on the external N-channel MOSFET and a rising edge turns it off. A low to high transition on this pin resets an ECB fault for the corresponding channel. Internally pulled up to VCC by a (See Datasheet)", 7 GND (power) "Device Ground.", 8 GATE2 (out) "Gate Drive for External N-channel MOSFET. A charge pump sources 10uA from GATE to turn on the external MOSFET. An internal clamp limits the gate voltage to 5.5V above the higher of VCC1 and VCC2. During turn-off, a 1.5mA (See Datasheet)", 9 VCC2 (power) "Supply Voltage and Current Sense Input. An undervoltage lockout circuit disables the part until VCC, the higher of VCC1 and VCC2, exceeds 2.4V. The lower supply is disabled until it exceeds 0.8V.", 10 SENSE2 (in) "Current Sense Input. Connect this pin to an external sense resistor. The current limit circuit controls GATEn to limit the voltage between VCCn and SENSEn to 25mV. An Electronic Circuit Breaker (ECB) is active during current (See Datasheet)", 11 EP "Exposed Pad may be left open or connected to device ground."

## LTC4224IDDB-1#TRMPBF
designator U?
Compact Dual Low Voltage Hot Swap Controller, 1 to 6 V Vin, 10-pin SON (DDB-10), -40 to 85 degC, Pb-Free, Mini Tape and Reel; Manufacturer: Linear Technology; PartNumber: LTC4224IDDB-1#TRMPBF; Active Limiting: yes; Circuit Breaker Accuracy(%): 10; Circuit Breaker Threshold: 50 mV; Circuit Breakers(#): 2; Extended Temp: C, I; Fast Comparator: no; Vin Range: 1V to 6 V; DatasheetVersion: Rev. A; PackageVersion: Rev. Ø, 06/2010; PackageReference: DDB10; PackageDescription: 10-Pin Plastic DFN, Body 3 x 2 mm, Pitch 0.5 mm; Supplier 1: Digi-Key; Supplier Part Number 1: LTC4224IDDB-1#TRMPBFTR-ND; Supplier 2: Digi-Key; Supplier Part Number 2: LTC4224IDDB-1#TRMPBFCT-ND; Supplier 3: Digi-Key; Supplier Part Number 3: LTC4224IDDB-1#TRMPBFDKR-ND; Fault: no; Foldback: no; Packing: Mini Tape and Reel; Power Good: yes; Reset: yes; RoHS: TRUE; Mounting Technology: Surface Mount; Code_JEDEC: MO-229; ComponentLink1Description: Manufacturer URL; ComponentLink1URL: http://www.linear.com/; ComponentLink2Description: Datasheet; ComponentLink2URL: http://cds.linear.com/docs/en/datasheet/422412fa.pdf; ComponentLink3Description: Package Specification; ComponentLink3URL: http://cds.linear.com/docs/en/packaging/DFN_10_05-08-1722.pdf
footprint LT-DDB-10_V (SON, 10-Leads, Body 3x2mm, Pitch 0.5mm, Thermal Pad 2.39x0.64mm)
pins: 1 SENSE1 (in) "Current Sense Input. Connect this pin to an external sense resistor. The current limit circuit controls GATEn to limit the voltage between VCCn and SENSEn to 25mV. An Electronic Circuit Breaker (ECB) is active during current (See Datasheet)", 2 VCC1 (power) "Supply Voltage and Current Sense Input. An undervoltage lockout circuit disables the part until VCC, the higher of VCC1 and VCC2, exceeds 2.4V. The lower supply is disabled until it exceeds 0.8V.", 3 GATE1 (out) "Gate Drive for External N-channel MOSFET. A charge pump sources 10uA from GATE to turn on the external MOSFET. An internal clamp limits the gate voltage to 5.5V above the higher of VCC1 and VCC2. During turn-off, a 1.5mA (See Datasheet)", 4 ~{FAULT} (oc) "Fault Status Output. Open-drain output that is normally pulled high to VCC1 or VCC2 by an external resistor. It is pulled low when the ECB trips due to an overcurrent condition at either supply. This pin may be left open if (See Datasheet)", 5 ~{ON1} (in) "On Control Input. A falling edge turns on the external N-channel MOSFET and a rising edge turns it off. A low to high transition on this pin resets an ECB fault for the corresponding channel. Internally pulled up to VCC by a (See Datasheet)", 6 ~{ON2} (in) "On Control Input. A falling edge turns on the external N-channel MOSFET and a rising edge turns it off. A low to high transition on this pin resets an ECB fault for the corresponding channel. Internally pulled up to VCC by a (See Datasheet)", 7 GND (power) "Device Ground.", 8 GATE2 (out) "Gate Drive for External N-channel MOSFET. A charge pump sources 10uA from GATE to turn on the external MOSFET. An internal clamp limits the gate voltage to 5.5V above the higher of VCC1 and VCC2. During turn-off, a 1.5mA (See Datasheet)", 9 VCC2 (power) "Supply Voltage and Current Sense Input. An undervoltage lockout circuit disables the part until VCC, the higher of VCC1 and VCC2, exceeds 2.4V. The lower supply is disabled until it exceeds 0.8V.", 10 SENSE2 (in) "Current Sense Input. Connect this pin to an external sense resistor. The current limit circuit controls GATEn to limit the voltage between VCCn and SENSEn to 25mV. An Electronic Circuit Breaker (ECB) is active during current (See Datasheet)", 11 EP "Exposed Pad may be left open or connected to device ground."

## LTC4224IDDB-1#TRPBF
designator U?
Compact Dual Low Voltage Hot Swap Controller, 1 to 6 V Vin, 10-pin SON (DDB-10), -40 to 85 degC, Pb-Free, Tape and Reel; Manufacturer: Linear Technology; PartNumber: LTC4224IDDB-1#TRPBF; Active Limiting: yes; Circuit Breaker Accuracy(%): 10; Circuit Breaker Threshold: 50 mV; Circuit Breakers(#): 2; Extended Temp: C, I; Fast Comparator: no; Vin Range: 1V to 6 V; DatasheetVersion: Rev. A; PackageVersion: Rev. Ø, 06/2010; PackageReference: DDB10; PackageDescription: 10-Pin Plastic DFN, Body 3 x 2 mm, Pitch 0.5 mm; Supplier 1: Digi-Key; Supplier Part Number 1: LTC4224IDDB-1#TRPBF-ND; Fault: no; Foldback: no; Packing: Tape and Reel; Power Good: yes; Reset: yes; RoHS: TRUE; Mounting Technology: Surface Mount; Code_JEDEC: MO-229; ComponentLink1Description: Manufacturer URL; ComponentLink1URL: http://www.linear.com/; ComponentLink2Description: Datasheet; ComponentLink2URL: http://cds.linear.com/docs/en/datasheet/422412fa.pdf; ComponentLink3Description: Package Specification; ComponentLink3URL: http://cds.linear.com/docs/en/packaging/DFN_10_05-08-1722.pdf
footprint LT-DDB-10_V (SON, 10-Leads, Body 3x2mm, Pitch 0.5mm, Thermal Pad 2.39x0.64mm)
pins: 1 SENSE1 (in) "Current Sense Input. Connect this pin to an external sense resistor. The current limit circuit controls GATEn to limit the voltage between VCCn and SENSEn to 25mV. An Electronic Circuit Breaker (ECB) is active during current (See Datasheet)", 2 VCC1 (power) "Supply Voltage and Current Sense Input. An undervoltage lockout circuit disables the part until VCC, the higher of VCC1 and VCC2, exceeds 2.4V. The lower supply is disabled until it exceeds 0.8V.", 3 GATE1 (out) "Gate Drive for External N-channel MOSFET. A charge pump sources 10uA from GATE to turn on the external MOSFET. An internal clamp limits the gate voltage to 5.5V above the higher of VCC1 and VCC2. During turn-off, a 1.5mA (See Datasheet)", 4 ~{FAULT} (oc) "Fault Status Output. Open-drain output that is normally pulled high to VCC1 or VCC2 by an external resistor. It is pulled low when the ECB trips due to an overcurrent condition at either supply. This pin may be left open if (See Datasheet)", 5 ~{ON1} (in) "On Control Input. A falling edge turns on the external N-channel MOSFET and a rising edge turns it off. A low to high transition on this pin resets an ECB fault for the corresponding channel. Internally pulled up to VCC by a (See Datasheet)", 6 ~{ON2} (in) "On Control Input. A falling edge turns on the external N-channel MOSFET and a rising edge turns it off. A low to high transition on this pin resets an ECB fault for the corresponding channel. Internally pulled up to VCC by a (See Datasheet)", 7 GND (power) "Device Ground.", 8 GATE2 (out) "Gate Drive for External N-channel MOSFET. A charge pump sources 10uA from GATE to turn on the external MOSFET. An internal clamp limits the gate voltage to 5.5V above the higher of VCC1 and VCC2. During turn-off, a 1.5mA (See Datasheet)", 9 VCC2 (power) "Supply Voltage and Current Sense Input. An undervoltage lockout circuit disables the part until VCC, the higher of VCC1 and VCC2, exceeds 2.4V. The lower supply is disabled until it exceeds 0.8V.", 10 SENSE2 (in) "Current Sense Input. Connect this pin to an external sense resistor. The current limit circuit controls GATEn to limit the voltage between VCCn and SENSEn to 25mV. An Electronic Circuit Breaker (ECB) is active during current (See Datasheet)", 11 EP "Exposed Pad may be left open or connected to device ground."

## LTC4224IDDB-2#PBF
designator U?
Compact Dual Low Voltage Hot Swap Controller, 1 to 6 V Vin, 10-pin SON (DDB-10), -40 to 85 degC, Pb-Free; Manufacturer: Linear Technology; PartNumber: LTC4224IDDB-2#PBF; Active Limiting: yes; Circuit Breaker Accuracy(%): 10; Circuit Breaker Threshold: 50 mV; Circuit Breakers(#): 2; Extended Temp: C, I; Fast Comparator: no; Vin Range: 1V to 6 V; DatasheetVersion: Rev. A; PackageVersion: Rev. Ø, 06/2010; PackageReference: DDB10; PackageDescription: 10-Pin Plastic DFN, Body 3 x 2 mm, Pitch 0.5 mm; Supplier 1: Newark; Supplier Part Number 1: 78T3319; Fault: no; Foldback: no; Power Good: yes; Reset: yes; RoHS: TRUE; Mounting Technology: Surface Mount; Code_JEDEC: MO-229; ComponentLink1Description: Manufacturer URL; ComponentLink1URL: http://www.linear.com/; ComponentLink2Description: Datasheet; ComponentLink2URL: http://cds.linear.com/docs/en/datasheet/422412fa.pdf; ComponentLink3Description: Package Specification; ComponentLink3URL: http://cds.linear.com/docs/en/packaging/DFN_10_05-08-1722.pdf
footprint LT-DDB-10_V (SON, 10-Leads, Body 3x2mm, Pitch 0.5mm, Thermal Pad 2.39x0.64mm)
pins: 1 SENSE1 (in) "Current Sense Input. Connect this pin to an external sense resistor. The current limit circuit controls GATEn to limit the voltage between VCCn and SENSEn to 25mV. An Electronic Circuit Breaker (ECB) is active during current (See Datasheet)", 2 VCC1 (power) "Supply Voltage and Current Sense Input. An undervoltage lockout circuit disables the part until VCC, the higher of VCC1 and VCC2, exceeds 2.4V. The lower supply is disabled until it exceeds 0.8V.", 3 GATE1 (out) "Gate Drive for External N-channel MOSFET. A charge pump sources 10uA from GATE to turn on the external MOSFET. An internal clamp limits the gate voltage to 5.5V above the higher of VCC1 and VCC2. During turn-off, a 1.5mA (See Datasheet)", 4 ~{FAULT} (oc) "Fault Status Output. Open-drain output that is normally pulled high to VCC1 or VCC2 by an external resistor. It is pulled low when the ECB trips due to an overcurrent condition at either supply. This pin may be left open if (See Datasheet)", 5 ~{ON1} (in) "On Control Input. A falling edge turns on the external N-channel MOSFET and a rising edge turns it off. A low to high transition on this pin resets an ECB fault for the corresponding channel. Internally pulled up to VCC by a (See Datasheet)", 6 ~{ON2} (in) "On Control Input. A falling edge turns on the external N-channel MOSFET and a rising edge turns it off. A low to high transition on this pin resets an ECB fault for the corresponding channel. Internally pulled up to VCC by a (See Datasheet)", 7 GND (power) "Device Ground.", 8 GATE2 (out) "Gate Drive for External N-channel MOSFET. A charge pump sources 10uA from GATE to turn on the external MOSFET. An internal clamp limits the gate voltage to 5.5V above the higher of VCC1 and VCC2. During turn-off, a 1.5mA (See Datasheet)", 9 VCC2 (power) "Supply Voltage and Current Sense Input. An undervoltage lockout circuit disables the part until VCC, the higher of VCC1 and VCC2, exceeds 2.4V. The lower supply is disabled until it exceeds 0.8V.", 10 SENSE2 (in) "Current Sense Input. Connect this pin to an external sense resistor. The current limit circuit controls GATEn to limit the voltage between VCCn and SENSEn to 25mV. An Electronic Circuit Breaker (ECB) is active during current (See Datasheet)", 11 EP "Exposed Pad may be left open or connected to device ground."